# EAGLE library part REF3230 (library texas-instruments.2)
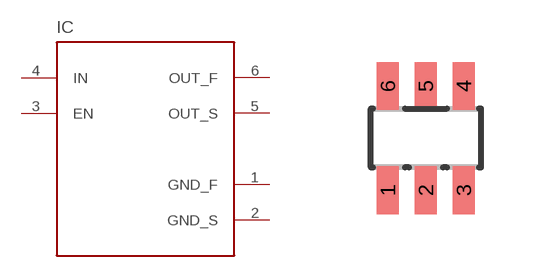
[diagram p9: symbol with the pads of SOT23-6; footprint SOT23-6]

Designator prefix IC

## REF3230  [SOT23-6]
1  GND_F
2  GND_S
3  EN
4  IN
5  OUT_S
6  OUT_F

## Footprint SOT23-6 (pad centres in mm)
5-Lead Small Outline Transistor Package SOT-23 Source: http://www.analog.com/UploadedFiles/Data_Sheets/346131962AD8067_a.pdf
smd 0.55 x 1.2: 1 -0.95,-1.3; 2 0,-1.3; 3 0.95,-1.3; 4 0.95,1.3; 5 0,1.3; 6 -0.95,1.3